# Altium footprint library orthofixture.PcbLib: 65 footprints (part 2 of 5)
Each footprint in its own frame and in the unit in brackets; x right, y up, seen from the top. Pads: shape width x height; smd on the part's side, far side on the other; paste and mask are expansions set on the pad; w line width, h text height; cw(c..) or ccw(c..) is an arc to the next point about the centre after c.
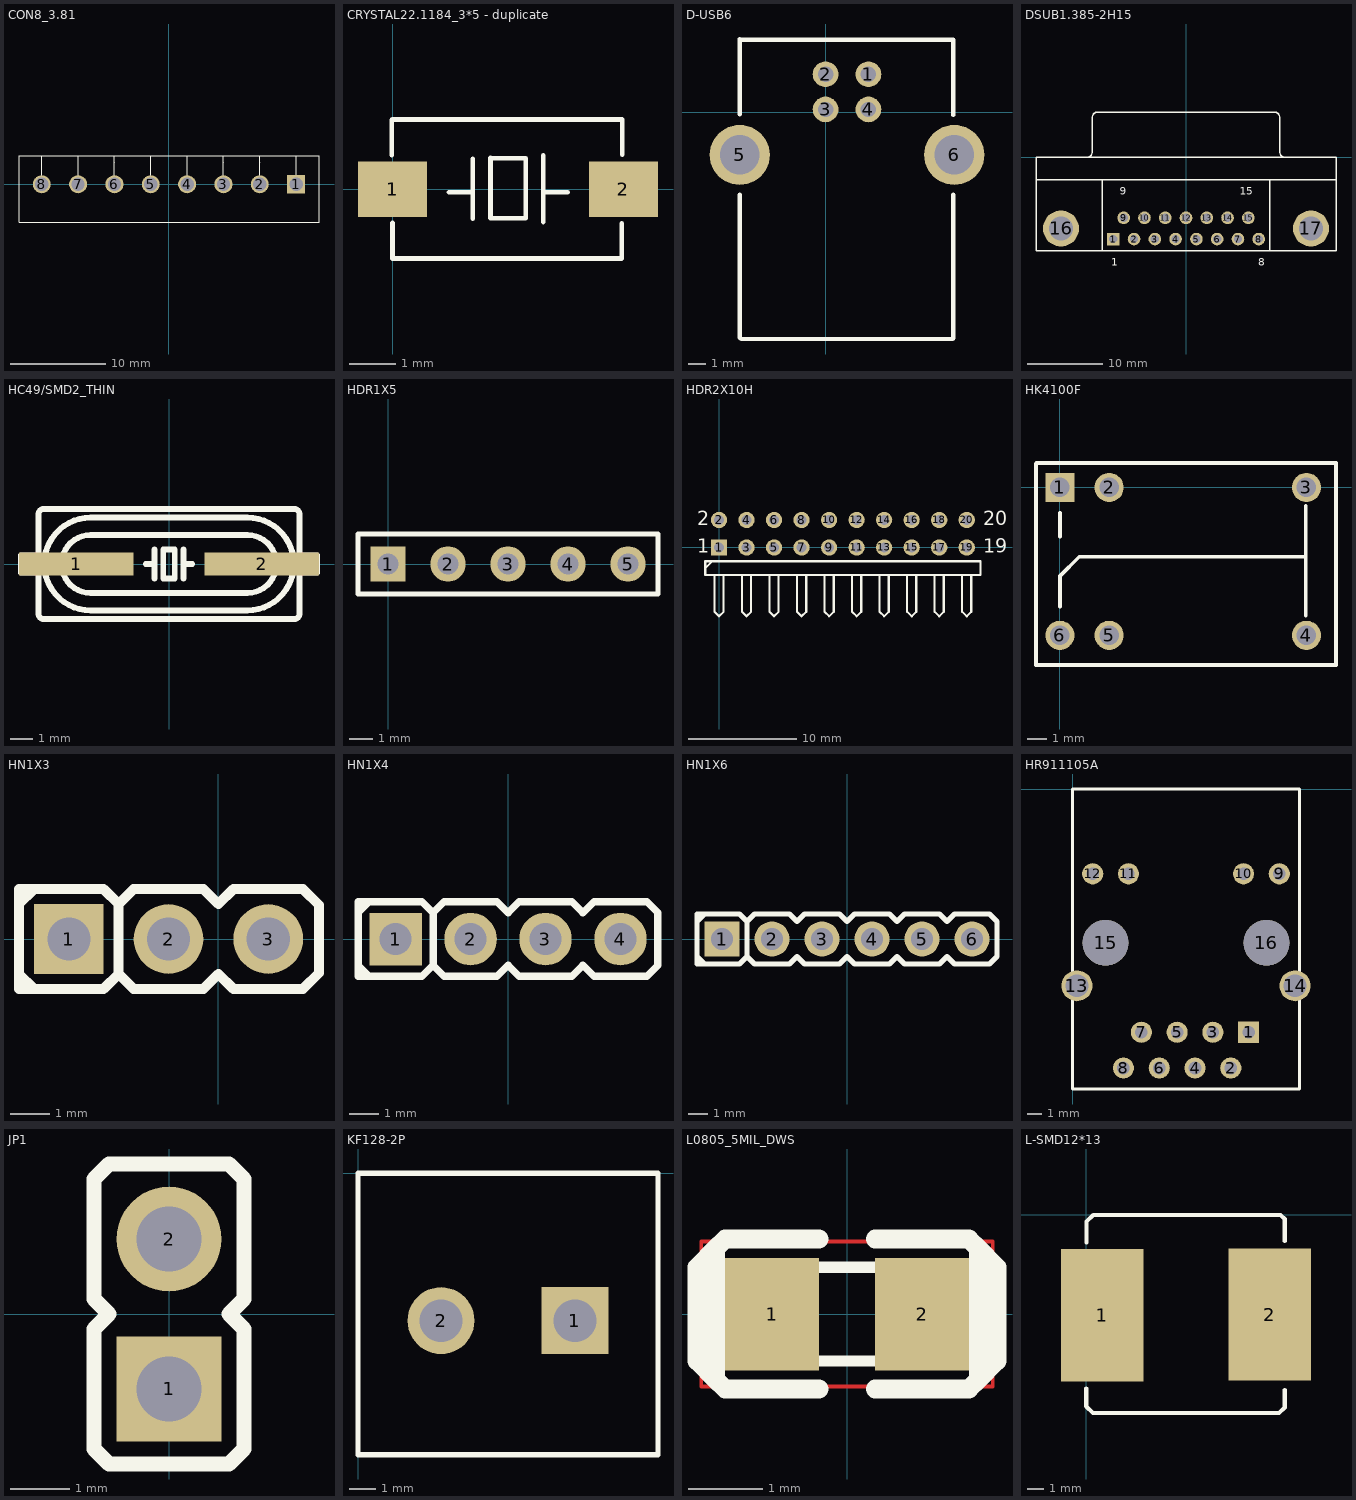
[diagram p1: the footprints below, top view; thin cyan lines are the x and y axes]

## CON8_3.81 [mm]
height 15.49
pads (8):
  rect 1.9x1.9 hole 1.4: 1(13.405,0)
  round 1.9 hole 1.4: 2(9.575,0) 3(5.745,0) 4(1.915,0) 5(-1.915,0) 6(-5.745,0) 7(-9.575,0) 8(-13.405,0)
Top Overlay:
  lines w0.1: -13.405,0 -13.405,2.34 -13.395,2.35 ; -13.405,1.7 -13.405,2.987 -13.392,3 ; -9.59,3 -9.575,2.985 -9.575,1.625 ; -9.575,0 -9.575,2.34 -9.565,2.35 ; -5.777,3 -5.745,2.968 -5.745,1.732 ; -5.745,0 -5.745,2.31 -5.705,2.35 ; -1.915,0 -1.915,2.33 -1.895,2.35 ; -1.915,1.924 -1.915,2.996 -1.911,3 ; -0.485,-4 2.734,-4 15.815,-4 15.815,3 -0.485,3 ; 0.495,-4 -12.586,-4 -15.805,-4 -15.805,3 0.495,3 ; 1.915,0 1.915,2.34 1.925,2.35 ; 1.915,1.7 1.915,2.987 1.928,3 ; 5.73,3 5.745,2.985 5.745,1.625 ; 5.745,0 5.745,2.34 5.755,2.35 ; 9.543,3 9.575,2.968 9.575,1.732 ; 9.575,0 9.575,2.31 9.615,2.35 ; 13.405,0 13.405,2.33 13.425,2.35 ; 13.405,1.924 13.405,2.996 13.409,3

## CRYSTAL22.1184_3*5 - duplicate [mm]
height 2
pads (2):
  rect 1.5x1.2 smd: 1(0,0) 2(5,0)
Top Overlay:
  lines w0.1: -0.016,0.736 -0.016,1.503 -0.007,1.512 4.977,1.512 ; -0.002,-0.732 -0.002,-1.502 4.964,-1.502 4.964,-0.74 ; 1.223,-0.067 1.739,-0.067 ; 1.739,-0.637 1.739,0.66 ; 2.12,0.684 2.12,-0.625 2.882,-0.625 2.882,0.672 2.171,0.672 ; 3.263,-0.709 3.263,0.738 ; 3.263,-0.067 3.793,-0.067 ; 4.978,0.744 4.978,1.47

## D-USB6 [mm]
height 15.49
pads (6):
  round 1.5 hole 0.9: 1(2.5,2.2) 2(0,2.2) 3(0,0.15) 4(2.5,0.15)
  round 3.5 hole 2.3: 5(-5,-2.5) 6(7.5,-2.5)
Top Overlay:
  lines w0.254: -4.992,-4.811 -4.992,-13.154 -4.92,-13.226 7.413,-13.226 7.45,-13.19 7.45,-4.811 ; -4.992,-0.132 -4.992,4.257 -4.956,4.221 7.45,4.221 7.45,-0.168
Bottom Overlay:
  text "GND" at 3.66,0.5 h1
  text "D+" at -2.85,0.61 h1
  text "D-" at -2.82,2.6 h1
  text "VCC" at 3.66,2.71 h1

## DSUB1.385-2H15 [mm] "Connector; D Subminiature; 15 Position; Right Angle; Pitch 1.385 mm"
height 12.75
pads (17):
  rect 1.69x1.69 hole 1.09: 1(-9.695,-10.92)
  round 1.69 hole 1.09: 2(-6.925,-10.92) 3(-4.155,-10.92) 4(-1.385,-10.92) 5(1.385,-10.92) 6(4.155,-10.92) 7(6.925,-10.92) 8(9.695,-10.92) 9(-8.31,-8.08) 10(-5.54,-8.08) 11(-2.77,-8.08) 12(0,-8.08) 13(2.77,-8.08) 14(5.54,-8.08) 15(8.31,-8.08)
  round 4.8 hole 3.18: 16(-16.66,-9.5) 17(16.66,-9.5)
Top Overlay:
  lines w0.2: -20,-3 20,-3 ; -13.195,0.005 ccw(c-13.195,0.7) -12.5,0.7 -12.5,5.3 ; -12.495,5.305 cw(c-11.8,5.305) -11.8,6 11.8,6 cw(c11.8,5.305) 12.495,5.305 ; -11.14,-12.5 -11.14,-3 ; 11.14,-12.5 11.14,-3 ; 12.5,5.3 12.5,0.7 ccw(c13.195,0.7) 13.195,0.005 ; -20,-12.5 20,-12.5 20,0 -20,0 -20,-12.5
  text "9" at -8.81,-4.975 h1
  text "15" at 7.185,-4.975 h1
  text "8" at 9.652,-14.475 h1
  text "1" at -9.945,-14.475 h1

## HC49/SMD2_THIN [mm]
pads (2):
  rect 5x1 smd: 1(-4.064,0) 2(4.064,0)
Top Overlay:
  lines w0.254: -1.016,0 -0.635,0 ; -0.635,-0.635 -0.635,0 ; -0.635,0.635 -0.635,0 ; 0.635,-0.635 0.635,0 ; 0.635,0.635 0.635,0 ; 1.016,0 0.635,0 ; 5.715,-0.381 6.477,-0.381 6.477,0.381 5.715,0.381 ; -5.715,-0.381 -6.477,-0.381 -6.477,0.381 -5.715,0.381 ; -5.715,-0.381 -5.715,0.381 ; -5.715,-0.381 -5.715,-1.143 -5.715,-2.159 ccw(c-5.461,-2.159) -5.461,-2.413 5.461,-2.413 ccw(c5.461,-2.159) 5.715,-2.159 5.715,-1.143 5.715,1.143 5.715,2.159 ccw(c5.461,2.159) 5.461,2.413 -5.461,2.413 ccw(c-5.461,2.159) -5.715,2.159 -5.715,1.143 -5.715,0.381 ; -5.109,-1.143 cw(c-3.429,0) -5.109,1.143 cw(c-3.429,0) -3.429,2.032 3.429,2.032 cw(c3.429,0) 5.109,1.143 cw(c3.429,0) 5.109,-1.143 cw(c3.429,0) 3.429,-2.032 -3.429,-2.032 cw(c-3.429,0) -5.109,-1.143 ; -3.983,-1.143 ccw(c-3.429,0) -3.429,-1.27 3.429,-1.27 ccw(c3.429,0) 3.983,-1.143 ccw(c3.429,0) 3.983,1.143 ccw(c3.429,0) 3.429,1.27 -3.429,1.27 ccw(c-3.429,0) -3.983,1.143 ccw(c-3.429,0) -3.983,-1.143 ; -0.254,-0.635 0.254,-0.635 0.254,0.635 -0.254,0.635 -0.254,-0.635

## HDR1X5 [mm] "Connector; Header; 5 Position"
height 15.49
pads (5):
  rect 1.5x1.5 hole 0.9: 1(0,0)
  round 1.5 hole 0.9: 2(2.54,0) 3(5.08,0) 4(7.62,0) 5(10.16,0)
Top Overlay:
  lines w0.2: -1.27,-1.27 11.43,-1.27 11.43,1.27 -1.27,1.27 -1.27,-1.27

## HDR2X10H [mm] "Connector; Header; 10x2 Position; Right Angle"
pads (20):
  rect 1.5x1.5 hole 0.9: 1(0,0)
  round 1.5 hole 0.9: 2(0,2.54) 3(2.54,0) 4(2.54,2.54) 5(5.08,0) 6(5.08,2.54) 7(7.62,0) 8(7.62,2.54) 9(10.16,0) 10(10.16,2.54) 11(12.7,0) 12(12.7,2.54) 13(15.24,0) 14(15.24,2.54) 15(17.78,0) 16(17.78,2.54) 17(20.32,0) 18(20.32,2.54) 19(22.86,0) 20(22.86,2.54)
Top Overlay:
  lines w0.2: -1.27,-1.905 -0.635,-1.27 ; -0.423,-2.54 -0.423,-5.927 0,-6.35 0.423,-5.927 0.423,-2.54 ; 2.117,-2.54 2.117,-5.927 2.54,-6.35 2.963,-5.927 2.963,-2.54 ; 4.657,-2.54 4.657,-5.927 5.08,-6.35 5.503,-5.927 5.503,-2.54 ; 7.197,-2.54 7.197,-5.927 7.62,-6.35 8.043,-5.927 8.043,-2.54 ; 9.737,-2.54 9.737,-5.927 10.16,-6.35 10.583,-5.927 10.583,-2.54 ; 12.277,-2.54 12.277,-5.927 12.7,-6.35 13.123,-5.927 13.123,-2.54 ; 14.817,-2.54 14.817,-5.927 15.24,-6.35 15.663,-5.927 15.663,-2.54 ; 17.357,-2.54 17.357,-5.927 17.78,-6.35 18.203,-5.927 18.203,-2.54 ; 19.897,-2.54 19.897,-5.927 20.32,-6.35 20.743,-5.927 20.743,-2.54 ; 22.437,-2.54 22.437,-5.927 22.86,-6.35 23.283,-5.927 23.283,-2.54 ; -1.27,-2.54 24.13,-2.54 24.13,-1.27 -1.27,-1.27 -1.27,-2.54
  text "20" at 24.384,2.032 h1.27
  text "19" at 24.384,-0.508 h1.27
  text "2" at -2.032,2.032 h1.27
  text "1" at -2.032,-0.508 h1.27

## HK4100F [mm]
height 12.75
pads (6):
  rect 1.5x1.5 hole 1: 1(0,0)
  round 1.5 hole 1: 2(2.54,0) 3(12.7,0) 4(12.7,-7.62) 5(2.54,-7.62) 6(0,-7.62)
Top Overlay:
  lines w0.2: 0,-6.148 0,-4.572 0.997,-3.575 1.035,-3.575 2.054,-3.575 12.664,-3.575 ; 0,-2.54 0,-1.31 ; 12.664,-6.604 12.664,-0.957 ; -1.229,-9.144 14.224,-9.144 14.224,1.251 -1.194,1.251 -1.229,1.216 -1.229,-9.144

## HN1X3 [mil]
pads (3):
  rect 70x70 hole 43.31: 1(-150,0)
  round 70 hole 43.31: 2(-50,0) 3(50,0)
Top Overlay:
  lines w10: -200,-35 -200,-50 -185,-50 ; -200,-35 -185,-50 ; -200,-35 -200,35 ; -200,35 -200,50 -185,50 ; -200,35 -185,50 ; -185,-50 -115,-50 -100,-35 ; -185,50 -115,50 -100,35 ; -100,-35 -100,35 ; -100,-35 -85,-50 -15,-50 0,-35 15,-50 85,-50 101,-34 101,34 85,50 15,50 0,35 -15,50 -85,50 -100,35

## HN1X4 [mil]
pads (4):
  rect 70x70 hole 43.31: 1(-150,0)
  round 70 hole 43.31: 2(-50,0) 3(50,0) 4(150,0)
Top Overlay:
  lines w10: -200,-35 -200,-50 -185,-50 ; -200,-35 -185,-50 ; -200,-35 -200,35 ; -200,35 -200,50 -185,50 ; -200,35 -185,50 ; -185,-50 -115,-50 -100,-35 ; -185,50 -115,50 -100,35 ; -100,-35 -100,35 ; -100,-35 -85,-50 -15,-50 0,-35 15,-50 85,-50 100,-35 115,-50 185,-50 200,-35 200,35 185,50 115,50 100,35 85,50 15,50 0,35 -15,50 -85,50 -100,35

## HN1X6 [mil]
pads (6):
  rect 70x70 hole 43.31: 1(-250,0)
  round 70 hole 43.31: 2(-150,0) 3(-50,0) 4(50,0) 5(150,0) 6(250,0)
Top Overlay:
  lines w10: -300,-35 -300,-50 -285,-50 ; -300,-35 -285,-50 ; -300,-35 -300,35 ; -300,35 -300,50 -285,50 ; -300,35 -285,50 ; -285,-50 -215,-50 -200,-35 ; -285,50 -215,50 -200,35 ; -200,-35 -200,35 ; -200,-35 -185,-50 -115,-50 -100,-35 -85,-50 -15,-50 0,-35 15,-50 85,-50 100,-35 115,-50 185,-50 200,-35 215,-50 285,-50 300,-35 300,35 285,50 215,50 200,35 185,50 115,50 100,35 85,50 15,50 0,35 -15,50 -85,50 -100,35 -115,50 -185,50 -200,35

## HR911105A [mm] "10/100Base-TX ,8-Pin,G/Y LED,"
height 13.4
pads (16):
  rect 1.5x1.5 hole 0.89: 1(12.5,-17.27)
  round 1.5 hole 0.89: 2(11.23,-19.81) 3(9.96,-17.27) 4(8.69,-19.81) 5(7.42,-17.27) 6(6.15,-19.81) 7(4.88,-17.27) 8(3.61,-19.81) 9(14.675,-6.02) 10(12.135,-6.02) 11(3.965,-6.02) 12(1.425,-6.02)
  round 2.2 hole 1.63: 13(0.305,-13.97) 14(15.795,-13.97)
  round 3.25 hole 3.25: 15(2.335,-10.92) 16(13.765,-10.92)
Top Overlay:
  lines w0.2: 0,-21.3 0,0 16.1,0 16.1,-21.3 0,-21.3

## JP1 [mil]
pads (2):
  rect 70x70 hole 43.31: 1(0,-50)
  round 70 hole 43.31: 2(0,50)
Top Overlay:
  lines w10: -50,-90 -40,-100 40,-100 50,-90 50,-10 40,0 50,10 50,90 40,100 -40,100 -50,90 -50,10 -40,0 -50,-10 -50,-90

## KF128-2P [mm] "Leyconn 2pin 71540XNN5800"
height 19
pads (2):
  rect 2.5x2.5 hole 1.6: 1(8.1,-5.5)
  round 2.5 hole 1.6: 2(3.1,-5.5)
Top Overlay:
  lines w0.2: 0,-10.5 0,0 11.2,0 11.2,-10.5 0,-10.5

## L0805_5MIL_DWS [mil]
pads (2):
  rect 50x60 smd: 1(-40,0) 2(40,0)
Top Layer:
  lines w2: -77.68,-38.7 -77.68,38.7 77.68,38.7 77.68,-38.7 -77.68,-38.7
Top Overlay:
  lines w6: -16.14,-25 16.14,-25 ; -16.14,25 16.14,25
  lines w10: -15,-40 -65,-40 -70,-35 ; -15,40 -65,40 -70,35 ; 15,-40 65,-40 70,-35 ; 15,40 65,40 70,35 ; -70,-35 -70,35 ; -70,-35 -80,-25 -80,25 -70,35 ; 70,-35 70,35 ; 70,-35 80,-25 80,25 70,35

## L-SMD12*13 [mm]
height 15.49
pads (2):
  rect 5x8 smd: 1(0.943,-6.077) 2(11.105,-6.035)
Top Overlay:
  lines w0.254: -0.014,-10.519 -0.014,-11.589 0.397,-12 11.654,-12 12,-11.654 12,-10.601 ; 0,-1.668 0,-0.407 0.407,0 11.747,0 12,-0.253 12,-1.583